# Altium schematic symbol library infineon-power.SchLib: 3 symbols
Pins are listed as number, name and electrical type; pins without a type are passive.

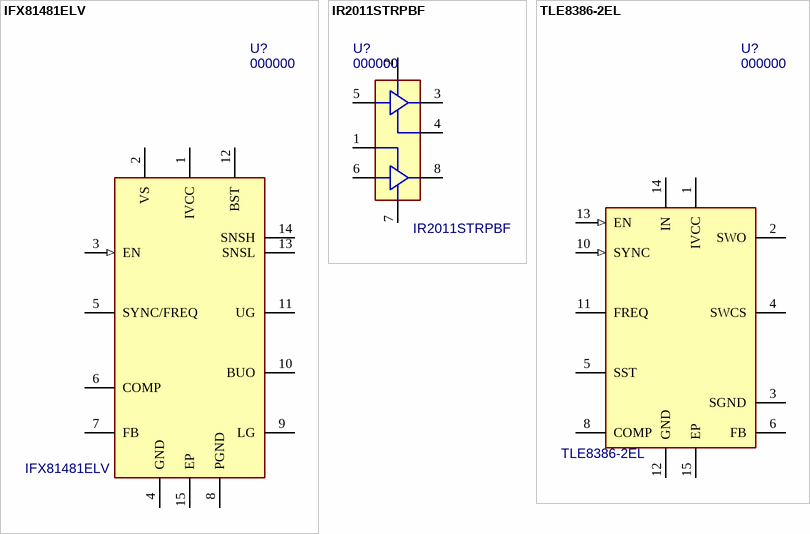
[diagram p0: symbols IFX81481ELV to TLE8386-2EL]

## IFX81481ELV
designator U?, comment 000000  value IFX81481ELV
Synchronous DC/DC Step-Down Controller; MF: Infineon; MF PN: IFX81481ELVXUMA1; PN: 000000; Package: PG-SSOP-14; ExtraInfo: *; Digi-Key PN: IFX81481ELVXUMA1CT-ND; Price: 0.79610
footprint PG-SSOP-14 (SOP, 14-Leads, Body 5.0x4.0mm (max), Pitch 0.65mm, IPC Medium Density)
pins: 1 IVCC (power), 2 VS (power), 3 EN (in), 4 GND (power), 5 SYNC/FREQ, 6 COMP, 7 FB, 8 PGND (power), 9 LG, 10 BUO, 11 UG, 12 BST, 13 SNSL, 14 SNSH, 15 EP (power)

## IR2011STRPBF
designator U?, comment 000000  value IR2011STRPBF
Hi Low Gate Driver 200V 1A; MF: Infineon; PN: 000000; Package: 8-SOIC; ExtraInfo: *
footprint 8-SOIC (Plastic Small Outline 8)
pins: 1 VCC, 2 VB (power), 3 HO, 4 VS, 5 HIN, 6 LIN, 7 COM (power), 8 LO

## TLE8386-2EL
designator U?, comment 000000  value TLE8386-2EL
Boost Controller; MF: Infineon; MF PN: TLE83862ELXUMA1; PN: 000000; Package: PG-SSOP-14; ExtraInfo: *; Digi-Key PN: TLE83862ELXUMA1CT-ND; Price: 1.01156
footprint PG-SSOP-14 (SOP, 14-Leads, Body 5.0x4.0mm (max), Pitch 0.65mm, IPC Medium Density)
pins: 1 IVCC (power), 2 SWO, 3 SGND (power), 4 SWCS, 5 SST, 6 FB, 8 COMP, 10 SYNC (in), 11 FREQ, 12 GND (power), 13 EN (in), 14 IN (power), 15 EP (power)